# Altium footprint library AQ3045-01ETG.PcbLib: 3 footprints
Each footprint in its own frame and in the unit in brackets; x right, y up, seen from the top. Pads: shape width x height; smd on the part's side, far side on the other; paste and mask are expansions set on the pad; w line width, h text height; cw(c..) or ccw(c..) is an arc to the next point about the centre after c.
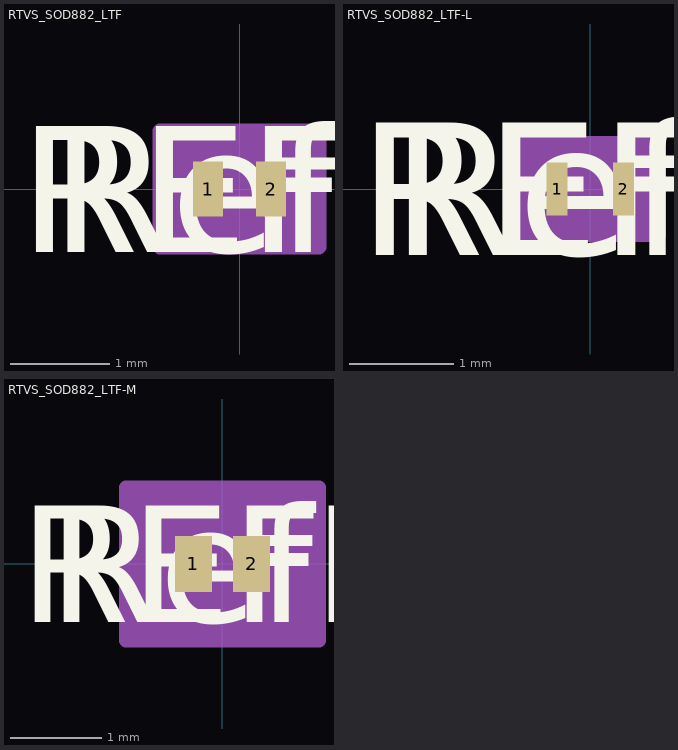
[diagram p0: the footprints below, top view; thin cyan lines are the x and y axes]

## RTVS_SOD882_LTF [mil]
pads (2):
  rect 12x22 smd paste+0 mask+0: 1(-12.5,0) 2(12.5,0)
Top Overlay:
  text "RefDes" at -75,-25 h50
  text "REFDES" at -87.5,-25 h50
Mechanical 13:
  circle w0: c-6.5,0 r3
  lines w0: -12,13 ccw(c0,13) 12,13
  lines w1: -21.5,-13 21.5,-13 21.5,13 -21.5,13 -21.5,-13
  text "RefDes2" at -87.5,-25 h50
Mechanical 15:
  region: -31.5,-21 -31.5,21 -31.5,23 31.5,23 31.5,21 31.5,-21 31.5,-23 -31.5,-23
  lines w6: -31.5,-21 -31.5,21 ; -31.5,-21 -31.5,-21 ; -31.5,-21 -31.5,-23 31.5,-23 31.5,-21 ; -31.5,21 -31.5,21 ; -31.5,21 -31.5,23 31.5,23 31.5,21 ; 31.5,-21 31.5,21 ; 31.5,-21 31.5,-21 ; 31.5,21 31.5,21
3D body "RTVS_SOD882_LTF.step": height 22.09, standoff 0, extent -21.5,-12.99 21.5,12.99

## RTVS_SOD882_LTF-L [mil]
pads (2):
  rect 8x20 smd paste+0 mask+0: 1(-12.5,0) 2(12.5,0)
Top Overlay:
  text "RefDes" at -75,-25 h50
  text "REFDES" at -87.5,-25 h50
Mechanical 13:
  circle w0: c-8.5,0 r3
  lines w0: -12,13 ccw(c0,13) 12,13
  lines w1: -21.5,-13 21.5,-13 21.5,13 -21.5,13 -21.5,-13
  text "RefDes2" at -87.5,-25 h50
Mechanical 15:
  region: -25.5,-14 -25.5,14 -25.5,17 25.5,17 25.5,14 25.5,-14 25.5,-17 -25.5,-17
  lines w6: -25.5,-14 -25.5,14 ; -25.5,-14 -25.5,-14 ; -25.5,-14 -25.5,-17 25.5,-17 25.5,-14 ; -25.5,14 -25.5,14 ; -25.5,14 -25.5,17 25.5,17 25.5,14 ; 25.5,-14 25.5,14 ; 25.5,-14 25.5,-14 ; 25.5,14 25.5,14
3D body "RTVS_SOD882_LTF.step": height 22.09, standoff 0, extent -21.5,-12.99 21.5,12.99

## RTVS_SOD882_LTF-M [mil]
pads (2):
  rect 16x24 smd paste+0 mask+0: 1(-12.5,0) 2(12.5,0)
Top Overlay:
  text "RefDes" at -75,-25 h50
  text "REFDES" at -87.5,-25 h50
Mechanical 13:
  circle w0: c-4.5,0 r3
  lines w0: -12,13 ccw(c0,13) 12,13
  lines w1: -21.5,-13 21.5,-13 21.5,13 -21.5,13 -21.5,-13
  text "RefDes2" at -87.5,-25 h50
Mechanical 15:
  region: -41.5,-32 -41.5,32 -41.5,33 41.5,33 41.5,32 41.5,-32 41.5,-33 -41.5,-33
  lines w6: -41.5,-32 -41.5,32 ; -41.5,-32 -41.5,-32 ; -41.5,-32 -41.5,-33 41.5,-33 41.5,-32 ; -41.5,32 -41.5,32 ; -41.5,32 -41.5,33 41.5,33 41.5,32 ; 41.5,-32 41.5,32 ; 41.5,-32 41.5,-32 ; 41.5,32 41.5,32
3D body "RTVS_SOD882_LTF.step": height 22.09, standoff 0, extent -21.5,-12.99 21.5,12.99